# EAGLE library part ST7540 (library 23K_candrian)
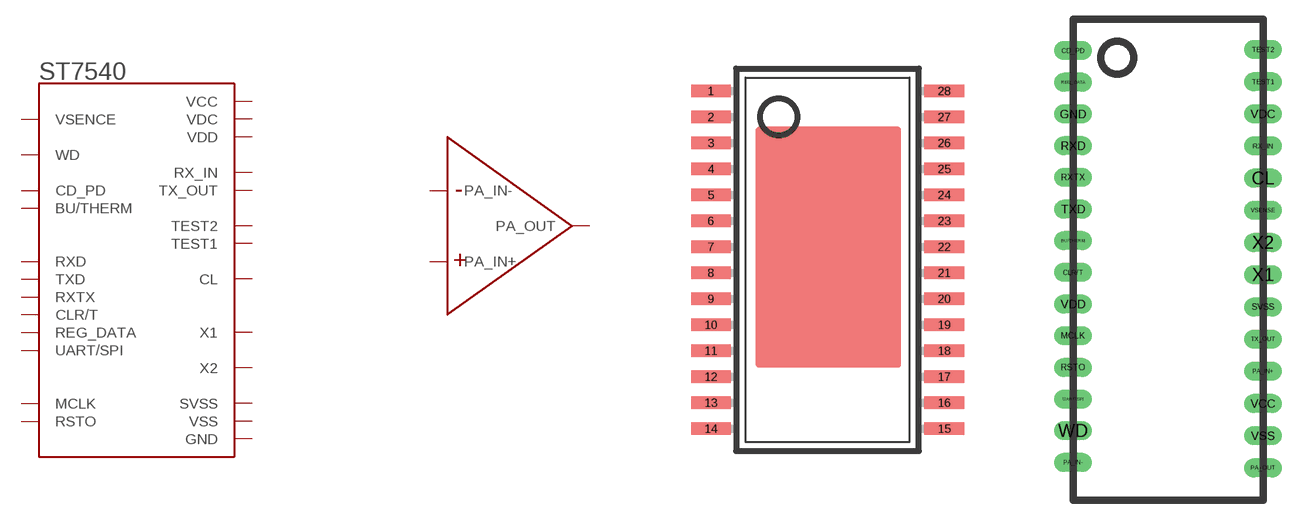
[diagram p10: symbol with the pads of HTSSOP28; footprints HTSSOP28, ST7540-BREAKOUT]

Designator prefix IC; gates G$1=ST7540 G$2=ST7540-PA

## ST7540HTSSOP28  [HTSSOP28]
1  G$1:CD_PD
2  G$1:REG_DATA
3  G$1:GND
4  G$1:RXD
5  G$1:RXTX
6  G$1:TXD
7  G$1:BU/THERM
8  G$1:CLR/T
9  G$1:VDD
10  G$1:MCLK
11  G$1:RSTO
12  G$1:UART/SPI
13  G$1:WD
14  G$2:PA_IN-
15  G$2:PA_OUT
16  G$1:VSS
17  G$1:VCC
18  G$2:PA_IN+
19  G$1:TX_OUT
20  G$1:SVSS
21  G$1:X1
22  G$1:X2
23  G$1:VSENCE
24  G$1:CL
25  G$1:RX_IN
26  G$1:VDC
27  G$1:TEST1
28  G$1:TEST2

## ST7540BREAKOUT  [ST7540-BREAKOUT]
BU/THERM  G$1:BU/THERM
CD_PD  G$1:CD_PD
CL  G$1:CL
CLR/T  G$1:CLR/T
GND  G$1:GND
MCLK  G$1:MCLK
PA_IN+  G$2:PA_IN+
PA_IN-  G$2:PA_IN-
PA_OUT  G$2:PA_OUT
REG_DATA  G$1:REG_DATA
RSTO  G$1:RSTO
RX_IN  G$1:RX_IN
RXD  G$1:RXD
RXTX  G$1:RXTX
SVSS  G$1:SVSS
TEST1  G$1:TEST1
TEST2  G$1:TEST2
TX_OUT  G$1:TX_OUT
TXD  G$1:TXD
UART/SPI  G$1:UART/SPI
VCC  G$1:VCC
VDC  G$1:VDC
VDD  G$1:VDD
VSENSE  G$1:VSENCE
VSS  G$1:VSS
WD  G$1:WD
X1  G$1:X1
X2  G$1:X2

## Footprint HTSSOP28 (pad centres in mm)
smd 0.991 x 0.305: 1 -3.388,3.955; 2 -3.388,3.305; 3 -3.388,2.655; 4 -3.388,2.005; 5 -3.388,1.355; 6 -3.388,0.705; 7 -3.388,0.055; 8 -3.388,-0.595; 9 -3.388,-1.245; 10 -3.388,-1.895; 11 -3.388,-2.545; 12 -3.388,-3.195; 13 -3.388,-3.845; 14 -3.388,-4.495; 15 2.448,-4.495; 16 2.448,-3.845; 17 2.448,-3.195; 18 2.448,-2.545; 19 2.448,-1.895; 20 2.448,-1.245; 21 2.448,-0.595; 22 2.448,0.055; 23 2.448,0.705; 24 2.448,1.355; 25 2.448,2.005; 26 2.448,2.655; 27 2.448,3.305; 28 2.448,3.955

## Footprint ST7540-BREAKOUT (pad centres in mm)
drill 1 long: BU/THERM -7.89,2.72; CD_PD -7.89,17.72; CL 7.08,7.65; CLR/T -7.89,0.22; GND -7.89,12.72; MCLK -7.89,-4.78; PA_IN+ 7.08,-7.59; PA_IN- -7.89,-14.78; PA_OUT 7.08,-15.21; REG_DATA -7.89,15.22; RSTO -7.89,-7.28; RX_IN 7.08,10.19; RXD -7.89,10.22; RXTX -7.89,7.72; SVSS 7.08,-2.51; TEST1 7.08,15.27; TEST2 7.08,17.81; TX_OUT 7.08,-5.05; TXD -7.89,5.22; UART/SPI -7.89,-9.78; VCC 7.08,-10.13; VDC 7.08,12.73; VDD -7.89,-2.28; VSENSE 7.08,5.11; VSS 7.08,-12.67; WD -7.89,-12.28; X1 7.08,0.03; X2 7.08,2.57